# Altium footprint library A2235-H.PcbLib: 1 footprints
Each footprint in its own frame and in the unit in brackets; x right, y up, seen from the top. Pads: shape width x height; smd on the part's side, far side on the other; paste and mask are expansions set on the pad; w line width, h text height; cw(c..) or ccw(c..) is an arc to the next point about the centre after c.
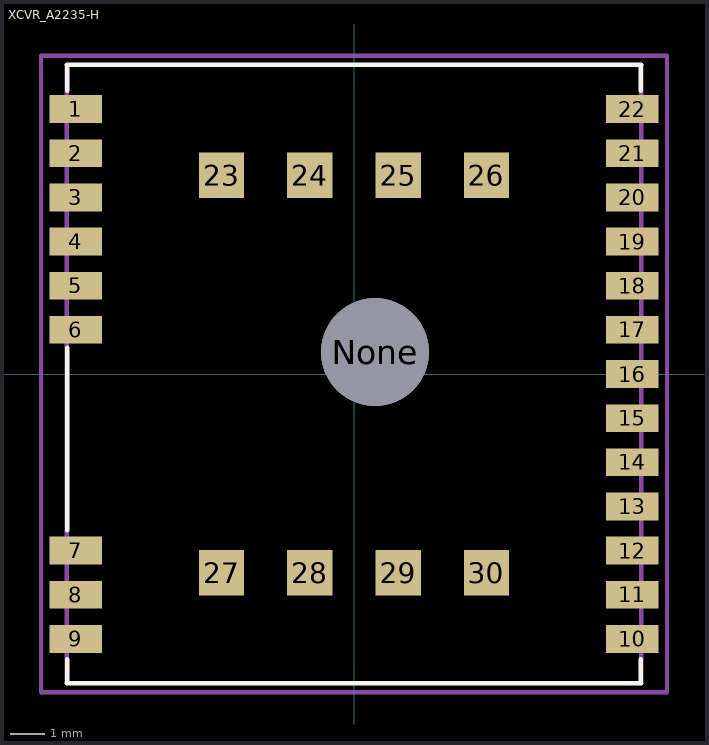
[diagram p0: the footprint, top view; thin cyan lines are the x and y axes]

## XCVR_A2235-H [mm]
pads (31):
  rect 1.5x0.8 smd paste-25.4 mask-25.4: 1(-8,7.62) 2(-8,6.35) 3(-8,5.08) 4(-8,3.81) 5(-8,2.54) 6(-8,1.27) 7(-8,-5.08) 8(-8,-6.35) 9(-8,-7.62) 10(8,-7.62) 11(8,-6.35) 12(8,-5.08) 13(8,-3.81) 14(8,-2.54) 15(8,-1.27) 16(8,0) 17(8,1.27) 18(8,2.54) 19(8,3.81) 20(8,5.08) 21(8,6.35) 22(8,7.62)
  rect 1.3x1.3 smd paste-25.4 mask-25.4: 23(-3.81,5.715) 24(-1.27,5.715) 25(1.27,5.715) 26(3.81,5.715) 27(-3.81,-5.715) 28(-1.27,-5.715) 29(1.27,-5.715) 30(3.81,-5.715)
  round 3.1 hole 3.1 unplated: None(0.605,0.63)
Top Overlay:
  lines w0.127: -8.255,-8.89 8.255,-8.89 ; -8.255,8.89 8.255,8.89 ; -8.25,-8.9 -8.25,-8.2 ; -8.25,-4.5 -8.25,0.75 ; -8.25,8.15 -8.25,8.9 ; 8.25,-8.9 8.25,-8.2 ; 8.25,8.15 8.25,8.9
Top Paste:
  region: 3.16,-6.365 4.46,-6.365 4.46,-5.065 3.16,-5.065
  region: 0.62,-6.365 1.92,-6.365 1.92,-5.065 0.62,-5.065
  region: -1.92,-6.365 -0.62,-6.365 -0.62,-5.065 -1.92,-5.065
  region: -4.46,-6.365 -3.16,-6.365 -3.16,-5.065 -4.46,-5.065
  region: 3.16,5.065 4.46,5.065 4.46,6.365 3.16,6.365
  region: 0.62,5.065 1.92,5.065 1.92,6.365 0.62,6.365
  region: -1.92,5.065 -0.62,5.065 -0.62,6.365 -1.92,6.365
  region: -4.46,5.065 -3.16,5.065 -3.16,6.365 -4.46,6.365
  region: 7.25,7.22 8.75,7.22 8.75,8.02 7.25,8.02
  region: 7.25,5.95 8.75,5.95 8.75,6.75 7.25,6.75
  region: 7.25,4.68 8.75,4.68 8.75,5.48 7.25,5.48
  region: 7.25,3.41 8.75,3.41 8.75,4.21 7.25,4.21
  region: 7.25,2.14 8.75,2.14 8.75,2.94 7.25,2.94
  region: 7.25,0.87 8.75,0.87 8.75,1.67 7.25,1.67
  region: 7.25,-0.4 8.75,-0.4 8.75,0.4 7.25,0.4
  region: 7.25,-1.67 8.75,-1.67 8.75,-0.87 7.25,-0.87
  region: 7.25,-2.94 8.75,-2.94 8.75,-2.14 7.25,-2.14
  region: 7.25,-4.21 8.75,-4.21 8.75,-3.41 7.25,-3.41
  region: 7.25,-5.48 8.75,-5.48 8.75,-4.68 7.25,-4.68
  region: 7.25,-6.75 8.75,-6.75 8.75,-5.95 7.25,-5.95
  region: 7.25,-8.02 8.75,-8.02 8.75,-7.22 7.25,-7.22
  region: -8.75,-8.02 -7.25,-8.02 -7.25,-7.22 -8.75,-7.22
  region: -8.75,-6.75 -7.25,-6.75 -7.25,-5.95 -8.75,-5.95
  region: -8.75,-5.48 -7.25,-5.48 -7.25,-4.68 -8.75,-4.68
  region: -8.75,0.87 -7.25,0.87 -7.25,1.67 -8.75,1.67
  region: -8.75,2.14 -7.25,2.14 -7.25,2.94 -8.75,2.94
  region: -8.75,3.41 -7.25,3.41 -7.25,4.21 -8.75,4.21
  region: -8.75,4.68 -7.25,4.68 -7.25,5.48 -8.75,5.48
  region: -8.75,5.95 -7.25,5.95 -7.25,6.75 -8.75,6.75
  region: -8.75,7.22 -7.25,7.22 -7.25,8.02 -8.75,8.02
Top Solder:
  region: 3.06,-6.465 4.56,-6.465 4.56,-4.965 3.06,-4.965
  region: 0.52,-6.465 2.02,-6.465 2.02,-4.965 0.52,-4.965
  region: -2.02,-6.465 -0.52,-6.465 -0.52,-4.965 -2.02,-4.965
  region: -4.56,-6.465 -3.06,-6.465 -3.06,-4.965 -4.56,-4.965
  region: 3.06,4.965 4.56,4.965 4.56,6.465 3.06,6.465
  region: 0.52,4.965 2.02,4.965 2.02,6.465 0.52,6.465
  region: -2.02,4.965 -0.52,4.965 -0.52,6.465 -2.02,6.465
  region: -4.56,4.965 -3.06,4.965 -3.06,6.465 -4.56,6.465
  region: 7.15,7.12 8.85,7.12 8.85,8.12 7.15,8.12
  region: 7.15,5.85 8.85,5.85 8.85,6.85 7.15,6.85
  region: 7.15,4.58 8.85,4.58 8.85,5.58 7.15,5.58
  region: 7.15,3.31 8.85,3.31 8.85,4.31 7.15,4.31
  region: 7.15,2.04 8.85,2.04 8.85,3.04 7.15,3.04
  region: 7.15,0.77 8.85,0.77 8.85,1.77 7.15,1.77
  region: 7.15,-0.5 8.85,-0.5 8.85,0.5 7.15,0.5
  region: 7.15,-1.77 8.85,-1.77 8.85,-0.77 7.15,-0.77
  region: 7.15,-3.04 8.85,-3.04 8.85,-2.04 7.15,-2.04
  region: 7.15,-4.31 8.85,-4.31 8.85,-3.31 7.15,-3.31
  region: 7.15,-5.58 8.85,-5.58 8.85,-4.58 7.15,-4.58
  region: 7.15,-6.85 8.85,-6.85 8.85,-5.85 7.15,-5.85
  region: 7.15,-8.12 8.85,-8.12 8.85,-7.12 7.15,-7.12
  region: -8.85,-8.12 -7.15,-8.12 -7.15,-7.12 -8.85,-7.12
  region: -8.85,-6.85 -7.15,-6.85 -7.15,-5.85 -8.85,-5.85
  region: -8.85,-5.58 -7.15,-5.58 -7.15,-4.58 -8.85,-4.58
  region: -8.85,0.77 -7.15,0.77 -7.15,1.77 -8.85,1.77
  region: -8.85,2.04 -7.15,2.04 -7.15,3.04 -8.85,3.04
  region: -8.85,3.31 -7.15,3.31 -7.15,4.31 -8.85,4.31
  region: -8.85,4.58 -7.15,4.58 -7.15,5.58 -8.85,5.58
  region: -8.85,5.85 -7.15,5.85 -7.15,6.85 -8.85,6.85
  region: -8.85,7.12 -7.15,7.12 -7.15,8.12 -8.85,8.12
Mechanical 1:
  lines w0.127: -8.255,-8.89 -8.255,8.89 ; 8.255,-8.89 8.255,8.89 ; -9,-9.15 -9,9.15 9,9.15 9,-9.15 -9,-9.15